# Altium schematic symbol library CAP,Cer,33nF,50V,X7R,0805.Schlib: 1 symbol
Pins are listed as number, name and electrical type; pins without a type are passive.

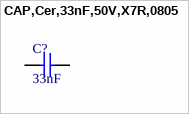
[diagram p0: symbol CAP,Cer,33nF,50V,X7R,0805]

## CAP,Cer,33nF,50V,X7R,0805
designator C?, comment 33nF
0.033 µF ±10% 50V Ceramic Capacitor X7R 0805 (2012 Metric)
pins: 1, 2